# Altium schematic symbol library MCU_Microchip_8051.SchLib: 12 symbols
Pins are listed as number, name and electrical type; pins without a type are passive.

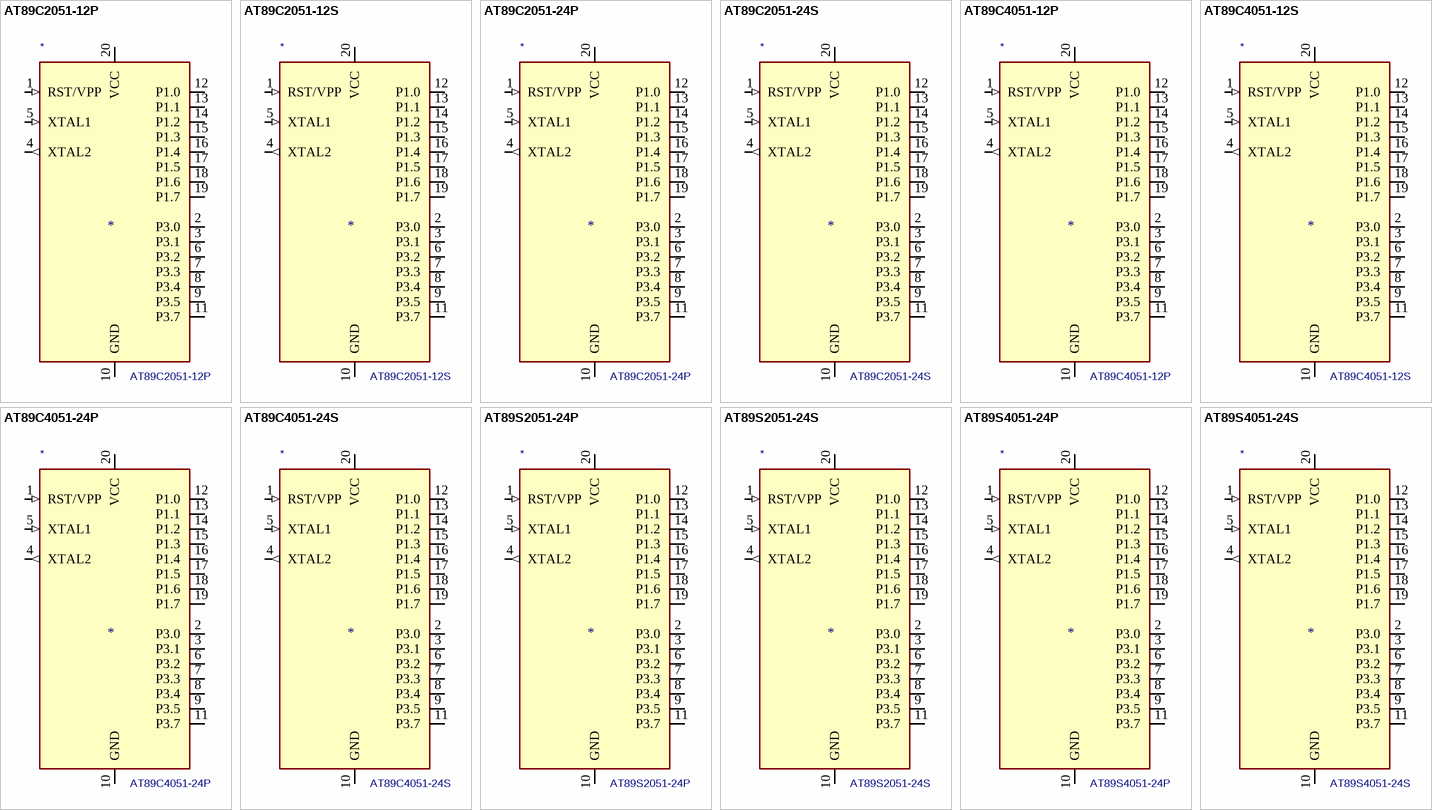
[diagram p0: symbols AT89C2051-12P to AT89S4051-24S]

## AT89C2051-12P
designator *  value AT89C2051-12P
ki_keywords: MCS-51 8bit Flash Microcontroller; ki_description: 12MHz, 2kB Flash, 128B SRAM, DIP-20; ki_fp_filters: DIP*W7.62mm*; Footprint: Package_DIP:DIP-20_W7.62mm; Supplier: http://ww1.microchip.com/downloads/en/DeviceDoc/doc0368.pdf
footprint DIP-20_W7.62mm
pins: 1 RST/VPP (in), 2 P3.0 (io), 3 P3.1 (io), 4 XTAL2 (out), 5 XTAL1 (in), 6 P3.2 (io), 7 P3.3 (io), 8 P3.4 (io), 9 P3.5 (io), 10 GND (power), 11 P3.7 (io), 12 P1.0 (io), 13 P1.1 (io), 14 P1.2 (io), 15 P1.3 (io), 16 P1.4 (io), 17 P1.5 (io), 18 P1.6 (io), 19 P1.7 (io), 20 VCC (power)

## AT89C2051-12S
designator *  value AT89C2051-12S
ki_keywords: MCS-51 8bit Flash Microcontroller; ki_description: 12MHz, 2kB Flash, 128B SRAM, SOIC-20; ki_fp_filters: SOIC*7.5x12.8mm*P1.27mm*; Footprint: Package_SO:SOIC-20W_7.5x12.8mm_P1.27mm; Supplier: http://ww1.microchip.com/downloads/en/DeviceDoc/doc0368.pdf
footprint SOIC-20W_7.5x12.8mm_P1.27mm
pins: 1 RST/VPP (in), 2 P3.0 (io), 3 P3.1 (io), 4 XTAL2 (out), 5 XTAL1 (in), 6 P3.2 (io), 7 P3.3 (io), 8 P3.4 (io), 9 P3.5 (io), 10 GND (power), 11 P3.7 (io), 12 P1.0 (io), 13 P1.1 (io), 14 P1.2 (io), 15 P1.3 (io), 16 P1.4 (io), 17 P1.5 (io), 18 P1.6 (io), 19 P1.7 (io), 20 VCC (power)

## AT89C2051-24P
designator *  value AT89C2051-24P
ki_keywords: MCS-51 8bit Flash Microcontroller; ki_description: 24MHz, 2kB Flash, 128B SRAM, DIP-20; ki_fp_filters: DIP*W7.62mm*; Footprint: Package_DIP:DIP-20_W7.62mm; Supplier: http://ww1.microchip.com/downloads/en/DeviceDoc/doc0368.pdf
footprint DIP-20_W7.62mm
pins: 1 RST/VPP (in), 2 P3.0 (io), 3 P3.1 (io), 4 XTAL2 (out), 5 XTAL1 (in), 6 P3.2 (io), 7 P3.3 (io), 8 P3.4 (io), 9 P3.5 (io), 10 GND (power), 11 P3.7 (io), 12 P1.0 (io), 13 P1.1 (io), 14 P1.2 (io), 15 P1.3 (io), 16 P1.4 (io), 17 P1.5 (io), 18 P1.6 (io), 19 P1.7 (io), 20 VCC (power)

## AT89C2051-24S
designator *  value AT89C2051-24S
ki_keywords: MCS-51 8bit Flash Microcontroller; ki_description: 24MHz, 2kB Flash, 128B SRAM, SOIC-20; ki_fp_filters: SOIC*7.5x12.8mm*P1.27mm*; Footprint: Package_SO:SOIC-20W_7.5x12.8mm_P1.27mm; Supplier: http://ww1.microchip.com/downloads/en/DeviceDoc/doc0368.pdf
footprint SOIC-20W_7.5x12.8mm_P1.27mm
pins: 1 RST/VPP (in), 2 P3.0 (io), 3 P3.1 (io), 4 XTAL2 (out), 5 XTAL1 (in), 6 P3.2 (io), 7 P3.3 (io), 8 P3.4 (io), 9 P3.5 (io), 10 GND (power), 11 P3.7 (io), 12 P1.0 (io), 13 P1.1 (io), 14 P1.2 (io), 15 P1.3 (io), 16 P1.4 (io), 17 P1.5 (io), 18 P1.6 (io), 19 P1.7 (io), 20 VCC (power)

## AT89C4051-12P
designator *  value AT89C4051-12P
ki_keywords: MCS-51 8bit Flash Microcontroller; ki_description: 12MHz, 4kB Flash, 128B SRAM, DIP-20; ki_fp_filters: DIP*W7.62mm*; Footprint: Package_DIP:DIP-20_W7.62mm; Supplier: http://ww1.microchip.com/downloads/en/DeviceDoc/doc1001.pdf
footprint DIP-20_W7.62mm
pins: 1 RST/VPP (in), 2 P3.0 (io), 3 P3.1 (io), 4 XTAL2 (out), 5 XTAL1 (in), 6 P3.2 (io), 7 P3.3 (io), 8 P3.4 (io), 9 P3.5 (io), 10 GND (power), 11 P3.7 (io), 12 P1.0 (io), 13 P1.1 (io), 14 P1.2 (io), 15 P1.3 (io), 16 P1.4 (io), 17 P1.5 (io), 18 P1.6 (io), 19 P1.7 (io), 20 VCC (power)

## AT89C4051-12S
designator *  value AT89C4051-12S
ki_keywords: MCS-51 8bit Flash Microcontroller; ki_description: 12MHz, 4kB Flash, 128B SRAM, SOIC-20; ki_fp_filters: SOIC*7.5x12.8mm*P1.27mm*; Footprint: Package_SO:SOIC-20W_7.5x12.8mm_P1.27mm; Supplier: http://ww1.microchip.com/downloads/en/DeviceDoc/doc1001.pdf
footprint SOIC-20W_7.5x12.8mm_P1.27mm
pins: 1 RST/VPP (in), 2 P3.0 (io), 3 P3.1 (io), 4 XTAL2 (out), 5 XTAL1 (in), 6 P3.2 (io), 7 P3.3 (io), 8 P3.4 (io), 9 P3.5 (io), 10 GND (power), 11 P3.7 (io), 12 P1.0 (io), 13 P1.1 (io), 14 P1.2 (io), 15 P1.3 (io), 16 P1.4 (io), 17 P1.5 (io), 18 P1.6 (io), 19 P1.7 (io), 20 VCC (power)

## AT89C4051-24P
designator *  value AT89C4051-24P
ki_keywords: MCS-51 8bit Flash Microcontroller; ki_description: 24MHz, 4kB Flash, 128B SRAM, DIP-20; ki_fp_filters: DIP*W7.62mm*; Footprint: Package_DIP:DIP-20_W7.62mm; Supplier: http://ww1.microchip.com/downloads/en/DeviceDoc/doc1001.pdf
footprint DIP-20_W7.62mm
pins: 1 RST/VPP (in), 2 P3.0 (io), 3 P3.1 (io), 4 XTAL2 (out), 5 XTAL1 (in), 6 P3.2 (io), 7 P3.3 (io), 8 P3.4 (io), 9 P3.5 (io), 10 GND (power), 11 P3.7 (io), 12 P1.0 (io), 13 P1.1 (io), 14 P1.2 (io), 15 P1.3 (io), 16 P1.4 (io), 17 P1.5 (io), 18 P1.6 (io), 19 P1.7 (io), 20 VCC (power)

## AT89C4051-24S
designator *  value AT89C4051-24S
ki_keywords: MCS-51 8bit Flash Microcontroller; ki_description: 24MHz, 4kB Flash, 128B SRAM, SOIC-20; ki_fp_filters: SOIC*7.5x12.8mm*P1.27mm*; Footprint: Package_SO:SOIC-20W_7.5x12.8mm_P1.27mm; Supplier: http://ww1.microchip.com/downloads/en/DeviceDoc/doc1001.pdf
footprint SOIC-20W_7.5x12.8mm_P1.27mm
pins: 1 RST/VPP (in), 2 P3.0 (io), 3 P3.1 (io), 4 XTAL2 (out), 5 XTAL1 (in), 6 P3.2 (io), 7 P3.3 (io), 8 P3.4 (io), 9 P3.5 (io), 10 GND (power), 11 P3.7 (io), 12 P1.0 (io), 13 P1.1 (io), 14 P1.2 (io), 15 P1.3 (io), 16 P1.4 (io), 17 P1.5 (io), 18 P1.6 (io), 19 P1.7 (io), 20 VCC (power)

## AT89S2051-24P
designator *  value AT89S2051-24P
ki_keywords: MCS-51 8bit Flash Microcontroller; ki_description: 24MHz, 2kB Flash, 256B SRAM, DIP-20; ki_fp_filters: DIP*W7.62mm*; Footprint: Package_DIP:DIP-20_W7.62mm; Supplier: http://ww1.microchip.com/downloads/en/DeviceDoc/doc3390.pdf
footprint DIP-20_W7.62mm
pins: 1 RST/VPP (in), 2 P3.0 (io), 3 P3.1 (io), 4 XTAL2 (out), 5 XTAL1 (in), 6 P3.2 (io), 7 P3.3 (io), 8 P3.4 (io), 9 P3.5 (io), 10 GND (power), 11 P3.7 (io), 12 P1.0 (io), 13 P1.1 (io), 14 P1.2 (io), 15 P1.3 (io), 16 P1.4 (io), 17 P1.5 (io), 18 P1.6 (io), 19 P1.7 (io), 20 VCC (power)

## AT89S2051-24S
designator *  value AT89S2051-24S
ki_keywords: MCS-51 8bit Flash Microcontroller; ki_description: 24MHz, 2kB Flash, 256B SRAM, SOIC-20; ki_fp_filters: SOIC*7.5x12.8mm*P1.27mm*; Footprint: Package_SO:SOIC-20W_7.5x12.8mm_P1.27mm; Supplier: http://ww1.microchip.com/downloads/en/DeviceDoc/doc3390.pdf
footprint SOIC-20W_7.5x12.8mm_P1.27mm
pins: 1 RST/VPP (in), 2 P3.0 (io), 3 P3.1 (io), 4 XTAL2 (out), 5 XTAL1 (in), 6 P3.2 (io), 7 P3.3 (io), 8 P3.4 (io), 9 P3.5 (io), 10 GND (power), 11 P3.7 (io), 12 P1.0 (io), 13 P1.1 (io), 14 P1.2 (io), 15 P1.3 (io), 16 P1.4 (io), 17 P1.5 (io), 18 P1.6 (io), 19 P1.7 (io), 20 VCC (power)

## AT89S4051-24P
designator *  value AT89S4051-24P
ki_keywords: MCS-51 8bit Flash Microcontroller; ki_description: 24MHz, 4kB Flash, 256B SRAM, DIP-20; ki_fp_filters: DIP*W7.62mm*; Footprint: Package_DIP:DIP-20_W7.62mm; Supplier: http://ww1.microchip.com/downloads/en/DeviceDoc/doc3390.pdf
footprint DIP-20_W7.62mm
pins: 1 RST/VPP (in), 2 P3.0 (io), 3 P3.1 (io), 4 XTAL2 (out), 5 XTAL1 (in), 6 P3.2 (io), 7 P3.3 (io), 8 P3.4 (io), 9 P3.5 (io), 10 GND (power), 11 P3.7 (io), 12 P1.0 (io), 13 P1.1 (io), 14 P1.2 (io), 15 P1.3 (io), 16 P1.4 (io), 17 P1.5 (io), 18 P1.6 (io), 19 P1.7 (io), 20 VCC (power)

## AT89S4051-24S
designator *  value AT89S4051-24S
ki_keywords: MCS-51 8bit Flash Microcontroller; ki_description: 24MHz, 4kB Flash, 256B SRAM, SOIC-20; ki_fp_filters: SOIC*7.5x12.8mm*P1.27mm*; Footprint: Package_SO:SOIC-20W_7.5x12.8mm_P1.27mm; Supplier: http://ww1.microchip.com/downloads/en/DeviceDoc/doc3390.pdf
footprint SOIC-20W_7.5x12.8mm_P1.27mm
pins: 1 RST/VPP (in), 2 P3.0 (io), 3 P3.1 (io), 4 XTAL2 (out), 5 XTAL1 (in), 6 P3.2 (io), 7 P3.3 (io), 8 P3.4 (io), 9 P3.5 (io), 10 GND (power), 11 P3.7 (io), 12 P1.0 (io), 13 P1.1 (io), 14 P1.2 (io), 15 P1.3 (io), 16 P1.4 (io), 17 P1.5 (io), 18 P1.6 (io), 19 P1.7 (io), 20 VCC (power)